# Altium schematic symbol library Displays.SchLib: 1 symbol
Pins are listed as number, name and electrical type; pins without a type are passive.

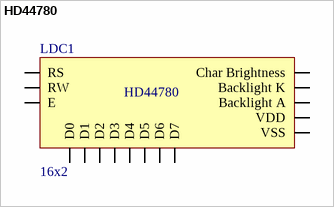
[diagram p0: symbol HD44780]

## HD44780
designator LDC1, comment 16x2
HD44780 16x2 LCD Display; Note: Char brightness is max @ GND lvl; eBay Link: http://www.ebay.com/itm/181295337227?ssPageName=STRK:MEWNX:IT&_trksid=p3984.m1439.l2649; Characters: 16x2
footprint HD44780
pins: A Backlight A, BRTN Char Brightness, D0, D1, D2, D3, D4, D5, D6, D7, E, K Backlight K, RS, RW, VDD, VSS